# Altium integrated library TI Power Management Power Modules.IntLib: 831 symbols (part 30 of 44)
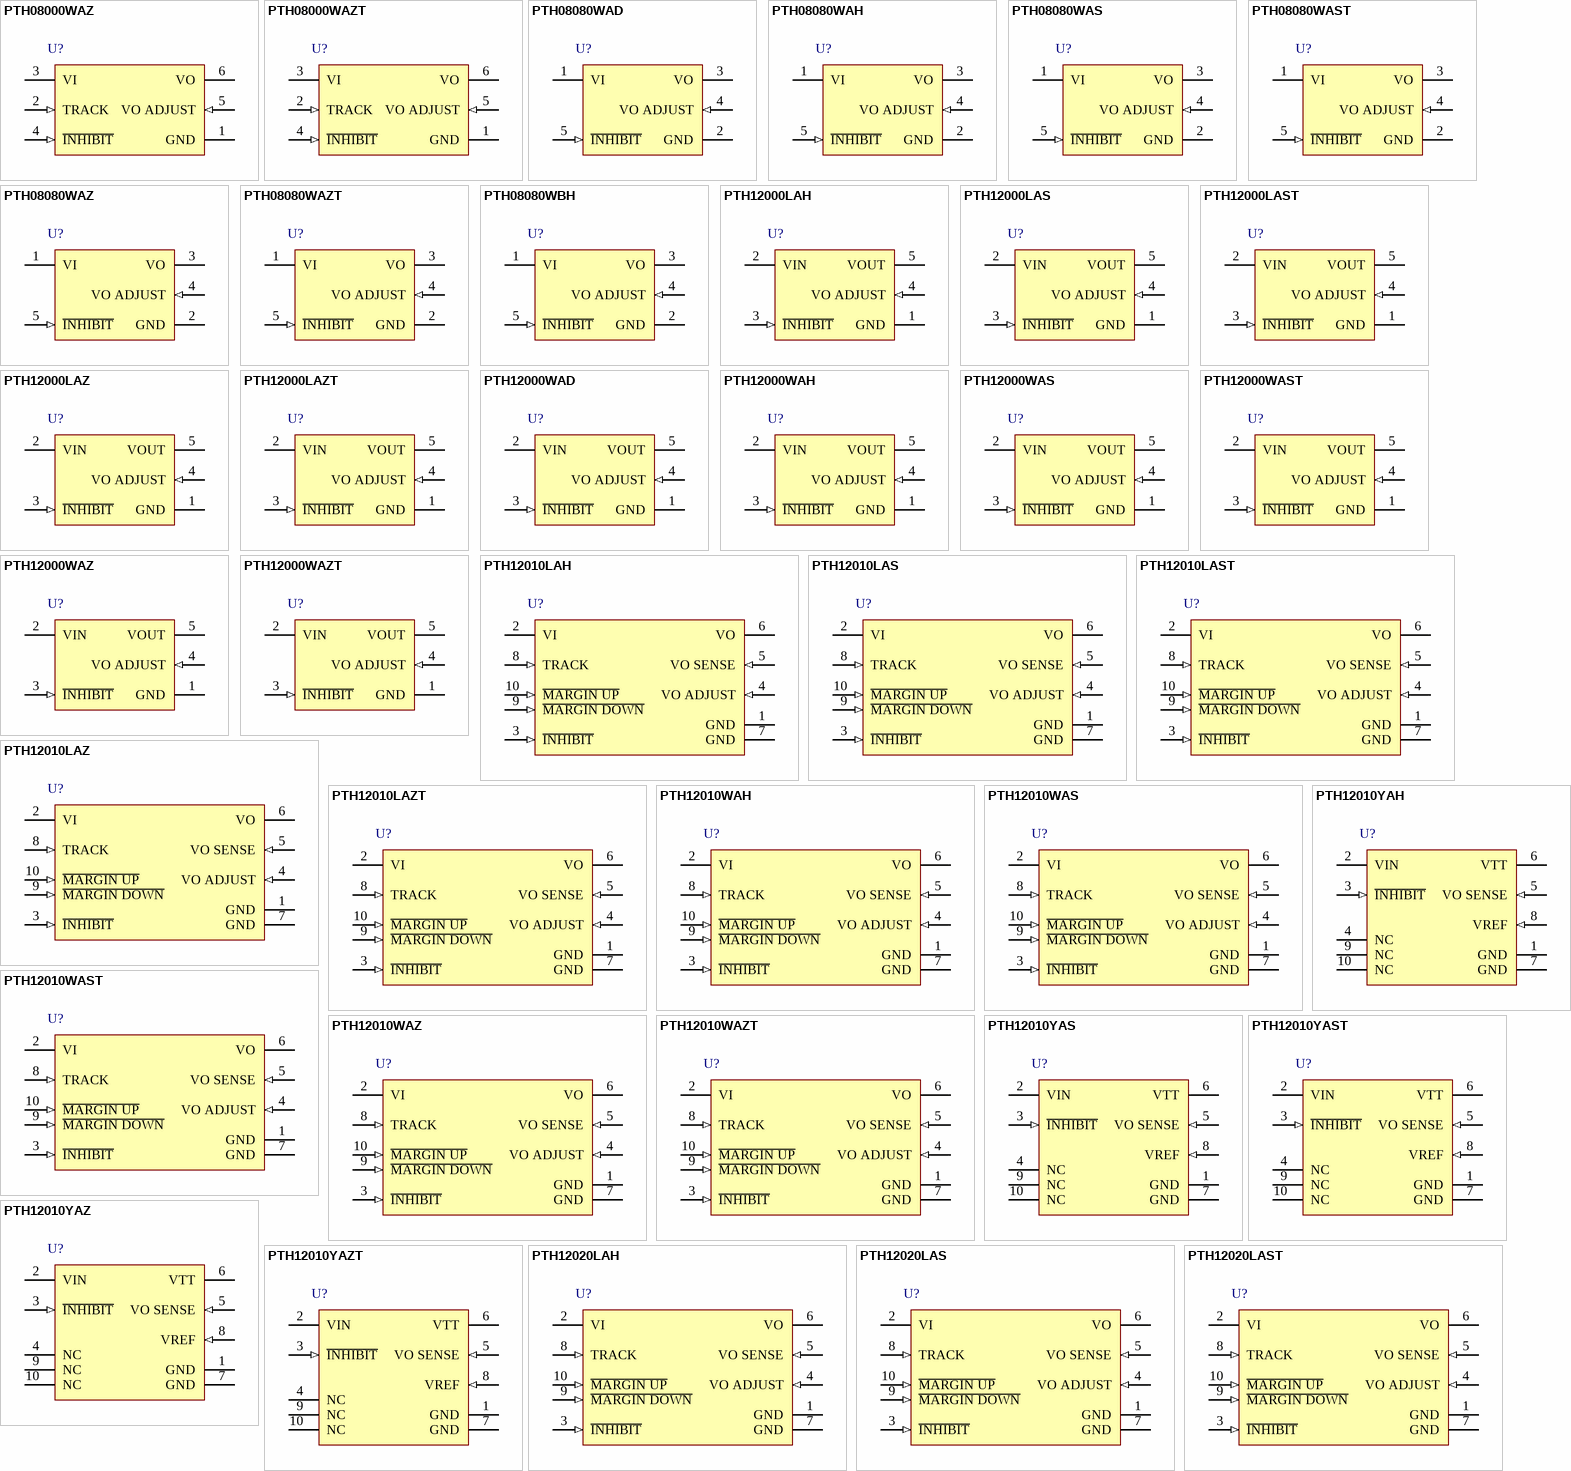
[diagram p52: symbols PTH08000WAZ to PTH12020LAST]

## PTH12010WAS
designator U?
1.2 to 5.5 V, 12 A, 12 V Input Non-Isolated Wide Adjust Module, -40 to 85 degC, 10-pin Module (EUJ10); Manufacturer: Texas Instruments; PartNumber: PTH12010WAS; Eco-Plan: TBD; Iout(Max)(A): 12; Regulated Outputs(#): 1; SubFamily: Non-Isolated POL; Vin(Max)(V): 13.2; Vin(Min)(V): 10.8; VO Adjustable: TRUE; Vout(Max)(V): 5.5; Vout(Min)(V): 1.2; DatasheetVersion: SLTS205G; PackageVersion: 4204985-3/E; PackageReference: EUJ10; PackageDescription: 10-Pin Plastic Special Shape, Body 15.75 x 34.8 mm; Supplier 1: Digi-Key; Supplier Part Number 1: 296-20455-ND; Supplier 2: Mouser; Supplier Part Number 2: 595-PTH12010WAS; Mounting Technology: Surface Mount; ComponentLink1Description: Manufacturer URL; ComponentLink1URL: http://www.ti.com/; ComponentLink2Description: Datasheet; ComponentLink2URL: http://www.ti.com/general/docs/lit/getliterature.tsp?genericPartNumber=PTH12010W&fileType=pdf; ComponentLink3Description: Package Specification; ComponentLink3URL: http://www.ti.com/lit/ml/mpds136d/mpds136d.pdf; ComponentLink4Description: URL Link1; ComponentLink4URL: Samples URL:http://www.ti.com/product/pth12010w#samples
footprint TI-EUJ10_V (10-Leads Double Sided Module, Body 34.8x15.75mm)
pins: 1 GND (power) "This is the common ground connection for the Vin and Vout power connections. It is also the 0 VDC reference for the control inputs.", 2 VI (power) "The positive input voltage power node to the module, which is referenced to common GND.", 3 ~{INHIBIT} (in) "The Inhibit pin is an open-collector/drain negative logic input that is referenced to GND. Applying a lowlevel ground signal to this input disables the module’s output and turns off the output voltage. When the Inhibit (See Datasheet)", 4 VO ADJUST (in) "A 1% resistor must be connected directly between this pin and GND (pin 7) to set the output voltage of the module higher than its lowest value. The temperature stability of the resistor should be 100 ppm/degreesC (or better).(See Datasheet)", 5 VO SENSE (in) "The sense input allows the regulation circuit to compensate for voltage drop between the module and the load. For optimal voltage accuracy Vo Sense should be connected to Vout. It can also be left disconnected.", 6 VO (power) "The regulated positive power output with respect to the GND node.", 7 GND (power) "This is the common ground connection for the Vin and Vout power connections. It is also the 0 VDC reference for the control inputs.", 8 TRACK (in) "This is an analog control input that enables the output voltage to follow an external voltage. This pin becomes active typically 20 ms after the input voltage has been applied, and allows direct control of the output voltage (See Datasheet)", 9 ~{MARGIN DOWN} (in) "When this input is asserted to GND, the output voltage is decreased by 5% from the nominal. The input requires an open-collector (open-drain) interface. It is not TTL compatible. A lower percent change can be accomodated (See Datasheet)", 10 ~{MARGIN UP} (in) "When this input is asserted to GND, the output voltage is increased by 5%. The input requires an open-collector (open-drain) interface. It is not TTL compatible. The percent change can be reduced with a series resistor. For (See Datasheet)"

## PTH12010WAST
designator U?
1.2 to 5.5 V, 12 A, 12 V Input Non-Isolated Wide Adjust Module, -40 to 85 degC, 10-pin Module (EUJ10); Manufacturer: Texas Instruments; PartNumber: PTH12010WAST; Eco-Plan: TBD; Iout(Max)(A): 12; Regulated Outputs(#): 1; SubFamily: Non-Isolated POL; Vin(Max)(V): 13.2; Vin(Min)(V): 10.8; VO Adjustable: TRUE; Vout(Max)(V): 5.5; Vout(Min)(V): 1.2; DatasheetVersion: SLTS205G; PackageVersion: 4204985-3/E; PackageReference: EUJ10; PackageDescription: 10-Pin Plastic Special Shape, Body 15.75 x 34.8 mm; Supplier 1: Digi-Key; Supplier Part Number 1: PTH12010WAST-ND; Supplier 2: Mouser; Supplier Part Number 2: 595-PTH12010WAST; Mounting Technology: Surface Mount; ComponentLink1Description: Manufacturer URL; ComponentLink1URL: http://www.ti.com/; ComponentLink2Description: Datasheet; ComponentLink2URL: http://www.ti.com/general/docs/lit/getliterature.tsp?genericPartNumber=PTH12010W&fileType=pdf; ComponentLink3Description: Package Specification; ComponentLink3URL: http://www.ti.com/lit/ml/mpds136d/mpds136d.pdf; ComponentLink4Description: URL Link1; ComponentLink4URL: Samples URL:http://www.ti.com/product/pth12010w#samples
footprint TI-EUJ10_V (10-Leads Double Sided Module, Body 34.8x15.75mm)
pins: 1 GND (power) "This is the common ground connection for the Vin and Vout power connections. It is also the 0 VDC reference for the control inputs.", 2 VI (power) "The positive input voltage power node to the module, which is referenced to common GND.", 3 ~{INHIBIT} (in) "The Inhibit pin is an open-collector/drain negative logic input that is referenced to GND. Applying a lowlevel ground signal to this input disables the module’s output and turns off the output voltage. When the Inhibit (See Datasheet)", 4 VO ADJUST (in) "A 1% resistor must be connected directly between this pin and GND (pin 7) to set the output voltage of the module higher than its lowest value. The temperature stability of the resistor should be 100 ppm/degreesC (or better).(See Datasheet)", 5 VO SENSE (in) "The sense input allows the regulation circuit to compensate for voltage drop between the module and the load. For optimal voltage accuracy Vo Sense should be connected to Vout. It can also be left disconnected.", 6 VO (power) "The regulated positive power output with respect to the GND node.", 7 GND (power) "This is the common ground connection for the Vin and Vout power connections. It is also the 0 VDC reference for the control inputs.", 8 TRACK (in) "This is an analog control input that enables the output voltage to follow an external voltage. This pin becomes active typically 20 ms after the input voltage has been applied, and allows direct control of the output voltage (See Datasheet)", 9 ~{MARGIN DOWN} (in) "When this input is asserted to GND, the output voltage is decreased by 5% from the nominal. The input requires an open-collector (open-drain) interface. It is not TTL compatible. A lower percent change can be accomodated (See Datasheet)", 10 ~{MARGIN UP} (in) "When this input is asserted to GND, the output voltage is increased by 5%. The input requires an open-collector (open-drain) interface. It is not TTL compatible. The percent change can be reduced with a series resistor. For (See Datasheet)"

## PTH12010WAZ
designator U?
1.2 to 5.5 V, 12 A, 12 V Input Non-Isolated Wide Adjust Module, -40 to 85 degC, 10-pin Module (EUJ10), Pb-Free (RoHS); Manufacturer: Texas Instruments; PartNumber: PTH12010WAZ; Iout(Max)(A): 12; Regulated Outputs(#): 1; SubFamily: Non-Isolated POL; Vin(Max)(V): 13.2; Vin(Min)(V): 10.8; VO Adjustable: TRUE; Vout(Max)(V): 5.5; Vout(Min)(V): 1.2; DatasheetVersion: SLTS205G; PackageVersion: 4204985-3/E; PackageReference: EUJ10; PackageDescription: 10-Pin Plastic Special Shape, Body 15.75 x 34.8 mm; Supplier 1: Digi-Key; Supplier Part Number 1: 296-20456-ND; Supplier 2: Newark; Supplier Part Number 2: 37K0738; Supplier 3: Mouser; Supplier Part Number 3: 595-PTH12010WAZ; Eco-Plan: Pb-Free (RoHS); Mounting Technology: Surface Mount; ComponentLink1Description: Manufacturer URL; ComponentLink1URL: http://www.ti.com/; ComponentLink2Description: Datasheet; ComponentLink2URL: http://www.ti.com/general/docs/lit/getliterature.tsp?genericPartNumber=PTH12010W&fileType=pdf; ComponentLink3Description: Package Specification; ComponentLink3URL: http://www.ti.com/lit/ml/mpds136d/mpds136d.pdf; ComponentLink4Description: URL Link1; ComponentLink4URL: Samples URL:http://www.ti.com/product/pth12010w#samples
footprint TI-EUJ10_V (10-Leads Double Sided Module, Body 34.8x15.75mm)
pins: 1 GND (power) "This is the common ground connection for the Vin and Vout power connections. It is also the 0 VDC reference for the control inputs.", 2 VI (power) "The positive input voltage power node to the module, which is referenced to common GND.", 3 ~{INHIBIT} (in) "The Inhibit pin is an open-collector/drain negative logic input that is referenced to GND. Applying a lowlevel ground signal to this input disables the module’s output and turns off the output voltage. When the Inhibit (See Datasheet)", 4 VO ADJUST (in) "A 1% resistor must be connected directly between this pin and GND (pin 7) to set the output voltage of the module higher than its lowest value. The temperature stability of the resistor should be 100 ppm/degreesC (or better).(See Datasheet)", 5 VO SENSE (in) "The sense input allows the regulation circuit to compensate for voltage drop between the module and the load. For optimal voltage accuracy Vo Sense should be connected to Vout. It can also be left disconnected.", 6 VO (power) "The regulated positive power output with respect to the GND node.", 7 GND (power) "This is the common ground connection for the Vin and Vout power connections. It is also the 0 VDC reference for the control inputs.", 8 TRACK (in) "This is an analog control input that enables the output voltage to follow an external voltage. This pin becomes active typically 20 ms after the input voltage has been applied, and allows direct control of the output voltage (See Datasheet)", 9 ~{MARGIN DOWN} (in) "When this input is asserted to GND, the output voltage is decreased by 5% from the nominal. The input requires an open-collector (open-drain) interface. It is not TTL compatible. A lower percent change can be accomodated (See Datasheet)", 10 ~{MARGIN UP} (in) "When this input is asserted to GND, the output voltage is increased by 5%. The input requires an open-collector (open-drain) interface. It is not TTL compatible. The percent change can be reduced with a series resistor. For (See Datasheet)"

## PTH12010WAZT
designator U?
1.2 to 5.5 V, 12 A, 12 V Input Non-Isolated Wide Adjust Module, -40 to 85 degC, 10-pin Module (EUJ10), Pb-Free (RoHS); Manufacturer: Texas Instruments; PartNumber: PTH12010WAZT; Iout(Max)(A): 12; Regulated Outputs(#): 1; SubFamily: Non-Isolated POL; Vin(Max)(V): 13.2; Vin(Min)(V): 10.8; VO Adjustable: TRUE; Vout(Max)(V): 5.5; Vout(Min)(V): 1.2; DatasheetVersion: SLTS205G; PackageVersion: 4204985-3/E; PackageReference: EUJ10; PackageDescription: 10-Pin Plastic Special Shape, Body 15.75 x 34.8 mm; Supplier 1: Digi-Key; Supplier Part Number 1: PTH12010WAZT-ND; Supplier 2: Newark; Supplier Part Number 2: 37K0739; Supplier 3: Mouser; Supplier Part Number 3: 595-PTH12010WAZT; Eco-Plan: Pb-Free (RoHS); Mounting Technology: Surface Mount; ComponentLink1Description: Manufacturer URL; ComponentLink1URL: http://www.ti.com/; ComponentLink2Description: Datasheet; ComponentLink2URL: http://www.ti.com/general/docs/lit/getliterature.tsp?genericPartNumber=PTH12010W&fileType=pdf; ComponentLink3Description: Package Specification; ComponentLink3URL: http://www.ti.com/lit/ml/mpds136d/mpds136d.pdf; ComponentLink4Description: URL Link1; ComponentLink4URL: Samples URL:http://www.ti.com/lit/gpn/pth12010w
footprint TI-EUJ10_V (10-Leads Double Sided Module, Body 34.8x15.75mm)
pins: 1 GND (power) "This is the common ground connection for the Vin and Vout power connections. It is also the 0 VDC reference for the control inputs.", 2 VI (power) "The positive input voltage power node to the module, which is referenced to common GND.", 3 ~{INHIBIT} (in) "The Inhibit pin is an open-collector/drain negative logic input that is referenced to GND. Applying a lowlevel ground signal to this input disables the module’s output and turns off the output voltage. When the Inhibit (See Datasheet)", 4 VO ADJUST (in) "A 1% resistor must be connected directly between this pin and GND (pin 7) to set the output voltage of the module higher than its lowest value. The temperature stability of the resistor should be 100 ppm/degreesC (or better).(See Datasheet)", 5 VO SENSE (in) "The sense input allows the regulation circuit to compensate for voltage drop between the module and the load. For optimal voltage accuracy Vo Sense should be connected to Vout. It can also be left disconnected.", 6 VO (power) "The regulated positive power output with respect to the GND node.", 7 GND (power) "This is the common ground connection for the Vin and Vout power connections. It is also the 0 VDC reference for the control inputs.", 8 TRACK (in) "This is an analog control input that enables the output voltage to follow an external voltage. This pin becomes active typically 20 ms after the input voltage has been applied, and allows direct control of the output voltage (See Datasheet)", 9 ~{MARGIN DOWN} (in) "When this input is asserted to GND, the output voltage is decreased by 5% from the nominal. The input requires an open-collector (open-drain) interface. It is not TTL compatible. A lower percent change can be accomodated (See Datasheet)", 10 ~{MARGIN UP} (in) "When this input is asserted to GND, the output voltage is increased by 5%. The input requires an open-collector (open-drain) interface. It is not TTL compatible. The percent change can be reduced with a series resistor. For (See Datasheet)"

## PTH12010YAH
designator U?
15 A, 12 V Input Bus Termination Power Module for DDR / QDR Memory, -40 to 85 degC, 10-pin Module (EUH10), Pb-Free (RoHS); Manufacturer: Texas Instruments; PartNumber: PTH12010YAH; Iout(Max)(A): 12; SubFamily: Non-Isolated POL; Vin(Max)(V): 13.2; Vin(Min)(V): 10.8; Vout(Max)(V): 1.8; Vout(Min)(V): 0.55; DatasheetVersion: SLTS223A; PackageVersion: 4204984-3/E; PackageReference: EUH10; PackageDescription: 10-Pin Plastic Special Shape, Body 15.75 x 34.8 mm; Supplier 1: Digi-Key; Supplier Part Number 1: 296-20457-ND; Supplier 2: Newark; Supplier Part Number 2: 01J0647; Supplier 3: Mouser; Supplier Part Number 3: 595-PTH12010YAH; Eco-Plan: Pb-Free (RoHS); Mounting Technology: Through Hole; ComponentLink1Description: Manufacturer URL; ComponentLink1URL: http://www.ti.com/; ComponentLink2Description: Datasheet; ComponentLink2URL: http://www.ti.com/general/docs/lit/getliterature.tsp?genericPartNumber=PTH12010Y&fileType=pdf; ComponentLink3Description: Package Specification; ComponentLink3URL: http://www.ti.com/litv/pdf/mpds130d; ComponentLink4Description: URL Link1; ComponentLink4URL: Samples URL:http://www.ti.com/product/pth12010y#samples
footprint TI-EUH10_V (Module, 10-Leads, Body 34.8x15.75 mm)
pins: 1 GND (power) "This is the common ground connection for the VIN and VTT power connections. It is also the 0-VDC reference for the control inputs.", 2 VIN (power) "The positive input voltage power node to the module, which is referenced to common GND.", 3 ~{INHIBIT} (in) "The Inhibit pin is an open-collector/drain negative logic input that is referenced to GND. Applying a low-level ground signal to this input turns off the output voltage, VTT. Although the module is inhibited, a voltage, VDDQ (See Datasheet)", 4 NC "No connection", 5 VO SENSE (in) "The sense input allows the regulation circuit to compensate for voltage drop between the module and the load. For optimal voltage accuracy VO SENSE should be connected to VTT.", 6 VTT (power) "This is the regulated power output from the module with respect to the GND node, and the tracking termination supply for the applicantion data and address buses.It is precisely regulated to the voltage applied to the (See Datasheet)", 7 GND (power) "This is the common ground connection for the VIN and VTT power connections. It is also the 0-VDC reference for the control inputs.", 8 VREF (in) "The module senses the voltage at this input to regulate the output voltage, VTT. The voltage at VREF is also the reference voltage for the system bus receiver comparators. It is normally set to precisely half the bus driver (See Datasheet)", 9 NC "No connection", 10 NC "No connection"

## PTH12010YAS
designator U?
15 A 12 V Input Bus Termination Power Module for DDR / QDR Memory, -40 to 85 degC, 10-pin Module (EUJ10); Manufacturer: Texas Instruments; PartNumber: PTH12010YAS; Eco-Plan: TBD; Iout(Max)(A): 12; SubFamily: Non-Isolated POL; Vin(Max)(V): 13.2; Vin(Min)(V): 10.8; Vout(Max)(V): 1.8; Vout(Min)(V): 0.55; DatasheetVersion: SLTS223A; PackageVersion: 4204985-3/E; PackageReference: EUJ10; PackageDescription: 10-Pin Plastic Special Shape, Body 15.75 x 34.8 mm; Supplier 1: Digi-Key; Supplier Part Number 1: 296-20458-ND; Supplier 2: Newark; Supplier Part Number 2: 01J0648; Supplier 3: Mouser; Supplier Part Number 3: 595-PTH12010YAS; Mounting Technology: Surface Mount; ComponentLink1Description: Manufacturer URL; ComponentLink1URL: http://www.ti.com/; ComponentLink2Description: Datasheet; ComponentLink2URL: http://www.ti.com/general/docs/lit/getliterature.tsp?genericPartNumber=PTH12010Y&fileType=pdf; ComponentLink3Description: Package Specification; ComponentLink3URL: http://www.ti.com/lit/ml/mpds136d/mpds136d.pdf; ComponentLink4Description: URL Link1; ComponentLink4URL: Samples URL:http://www.ti.com/product/pth12010y#samples
footprint TI-EUJ10_V (10-Leads Double Sided Module, Body 34.8x15.75mm)
pins: 1 GND (power) "This is the common ground connection for the VIN and VTT power connections. It is also the 0-VDC reference for the control inputs.", 2 VIN (power) "The positive input voltage power node to the module, which is referenced to common GND.", 3 ~{INHIBIT} (in) "The Inhibit pin is an open-collector/drain negative logic input that is referenced to GND. Applying a low-level ground signal to this input turns off the output voltage, VTT. Although the module is inhibited, a voltage, VDDQ (See Datasheet)", 4 NC "No connection", 5 VO SENSE (in) "The sense input allows the regulation circuit to compensate for voltage drop between the module and the load. For optimal voltage accuracy VO SENSE should be connected to VTT.", 6 VTT (power) "This is the regulated power output from the module with respect to the GND node, and the tracking termination supply for the applicantion data and address buses.It is precisely regulated to the voltage applied to the (See Datasheet)", 7 GND (power) "This is the common ground connection for the VIN and VTT power connections. It is also the 0-VDC reference for the control inputs.", 8 VREF (in) "The module senses the voltage at this input to regulate the output voltage, VTT. The voltage at VREF is also the reference voltage for the system bus receiver comparators. It is normally set to precisely half the bus driver (See Datasheet)", 9 NC "No connection", 10 NC "No connection"

## PTH12010YAST
designator U?
15 A 12 V Input Bus Termination Power Module for DDR / QDR Memory, -40 to 85 degC, 10-pin Module (EUJ10); Manufacturer: Texas Instruments; PartNumber: PTH12010YAST; Eco-Plan: TBD; Iout(Max)(A): 12; SubFamily: Non-Isolated POL; Vin(Max)(V): 13.2; Vin(Min)(V): 10.8; Vout(Max)(V): 1.8; Vout(Min)(V): 0.55; DatasheetVersion: SLTS223A; PackageVersion: 4204985-3/E; PackageReference: EUJ10; PackageDescription: 10-Pin Plastic Special Shape, Body 15.75 x 34.8 mm; Supplier 1: Digi-Key; Supplier Part Number 1: PTH12010YAST-ND; Supplier 2: Newark; Supplier Part Number 2: 01J0649; Supplier 3: Mouser; Supplier Part Number 3: 595-PTH12010YAST; Mounting Technology: Surface Mount; ComponentLink1Description: Manufacturer URL; ComponentLink1URL: http://www.ti.com/; ComponentLink2Description: Datasheet; ComponentLink2URL: http://www.ti.com/general/docs/lit/getliterature.tsp?genericPartNumber=PTH12010Y&fileType=pdf; ComponentLink3Description: Package Specification; ComponentLink3URL: http://www.ti.com/lit/ml/mpds136d/mpds136d.pdf; ComponentLink4Description: URL Link1; ComponentLink4URL: Samples URL:http://www.ti.com/product/pth12010y#samples
footprint TI-EUJ10_V (10-Leads Double Sided Module, Body 34.8x15.75mm)
pins: 1 GND (power) "This is the common ground connection for the VIN and VTT power connections. It is also the 0-VDC reference for the control inputs.", 2 VIN (power) "The positive input voltage power node to the module, which is referenced to common GND.", 3 ~{INHIBIT} (in) "The Inhibit pin is an open-collector/drain negative logic input that is referenced to GND. Applying a low-level ground signal to this input turns off the output voltage, VTT. Although the module is inhibited, a voltage, VDDQ (See Datasheet)", 4 NC "No connection", 5 VO SENSE (in) "The sense input allows the regulation circuit to compensate for voltage drop between the module and the load. For optimal voltage accuracy VO SENSE should be connected to VTT.", 6 VTT (power) "This is the regulated power output from the module with respect to the GND node, and the tracking termination supply for the applicantion data and address buses.It is precisely regulated to the voltage applied to the (See Datasheet)", 7 GND (power) "This is the common ground connection for the VIN and VTT power connections. It is also the 0-VDC reference for the control inputs.", 8 VREF (in) "The module senses the voltage at this input to regulate the output voltage, VTT. The voltage at VREF is also the reference voltage for the system bus receiver comparators. It is normally set to precisely half the bus driver (See Datasheet)", 9 NC "No connection", 10 NC "No connection"

## PTH12010YAZ
designator U?
15 A 12 V Input Bus Termination Power Module for DDR / QDR Memory, -40 to 85 degC, 10-pin Module (EUJ10), Pb-Free (RoHS); Manufacturer: Texas Instruments; PartNumber: PTH12010YAZ; Iout(Max)(A): 12; SubFamily: Non-Isolated POL; Vin(Max)(V): 13.2; Vin(Min)(V): 10.8; Vout(Max)(V): 1.8; Vout(Min)(V): 0.55; DatasheetVersion: SLTS223A; PackageVersion: 4204985-3/E; PackageReference: EUJ10; PackageDescription: 10-Pin Plastic Special Shape, Body 15.75 x 34.8 mm; Supplier 1: Digi-Key; Supplier Part Number 1: 296-20459-ND; Supplier 2: Newark; Supplier Part Number 2: 37K0740; Supplier 3: Mouser; Supplier Part Number 3: 595-PTH12010YAZ; Eco-Plan: Pb-Free (RoHS); Mounting Technology: Surface Mount; ComponentLink1Description: Manufacturer URL; ComponentLink1URL: http://www.ti.com/; ComponentLink2Description: Datasheet; ComponentLink2URL: http://www.ti.com/general/docs/lit/getliterature.tsp?genericPartNumber=PTH12010Y&fileType=pdf; ComponentLink3Description: Package Specification; ComponentLink3URL: http://www.ti.com/lit/ml/mpds136d/mpds136d.pdf; ComponentLink4Description: URL Link1; ComponentLink4URL: Samples URL:http://www.ti.com/product/pth12010y#samples
footprint TI-EUJ10_V (10-Leads Double Sided Module, Body 34.8x15.75mm)
pins: 1 GND (power) "This is the common ground connection for the VIN and VTT power connections. It is also the 0-VDC reference for the control inputs.", 2 VIN (power) "The positive input voltage power node to the module, which is referenced to common GND.", 3 ~{INHIBIT} (in) "The Inhibit pin is an open-collector/drain negative logic input that is referenced to GND. Applying a low-level ground signal to this input turns off the output voltage, VTT. Although the module is inhibited, a voltage, VDDQ (See Datasheet)", 4 NC "No connection", 5 VO SENSE (in) "The sense input allows the regulation circuit to compensate for voltage drop between the module and the load. For optimal voltage accuracy VO SENSE should be connected to VTT.", 6 VTT (power) "This is the regulated power output from the module with respect to the GND node, and the tracking termination supply for the applicantion data and address buses.It is precisely regulated to the voltage applied to the (See Datasheet)", 7 GND (power) "This is the common ground connection for the VIN and VTT power connections. It is also the 0-VDC reference for the control inputs.", 8 VREF (in) "The module senses the voltage at this input to regulate the output voltage, VTT. The voltage at VREF is also the reference voltage for the system bus receiver comparators. It is normally set to precisely half the bus driver (See Datasheet)", 9 NC "No connection", 10 NC "No connection"

## PTH12010YAZT
designator U?
15 A 12 V Input Bus Termination Power Module for DDR / QDR Memory, -40 to 85 degC, 10-pin Module (EUJ10), Pb-Free (RoHS); Manufacturer: Texas Instruments; PartNumber: PTH12010YAZT; Iout(Max)(A): 12; SubFamily: Non-Isolated POL; Vin(Max)(V): 13.2; Vin(Min)(V): 10.8; Vout(Max)(V): 1.8; Vout(Min)(V): 0.55; DatasheetVersion: SLTS223A; PackageVersion: 4204985-3/E; PackageReference: EUJ10; PackageDescription: 10-Pin Plastic Special Shape, Body 15.75 x 34.8 mm; Supplier 1: Digi-Key; Supplier Part Number 1: PTH12010YAZT-ND; Supplier 2: Newark; Supplier Part Number 2: 37K0741; Supplier 3: Mouser; Supplier Part Number 3: 595-PTH12010YAZT; Eco-Plan: Pb-Free (RoHS); Mounting Technology: Surface Mount; ComponentLink1Description: Manufacturer URL; ComponentLink1URL: http://www.ti.com/; ComponentLink2Description: Datasheet; ComponentLink2URL: http://www.ti.com/general/docs/lit/getliterature.tsp?genericPartNumber=PTH12010Y&fileType=pdf; ComponentLink3Description: Package Specification; ComponentLink3URL: http://www.ti.com/lit/ml/mpds136d/mpds136d.pdf; ComponentLink4Description: URL Link1; ComponentLink4URL: Samples URL:http://www.ti.com/product/pth12010y#samples
footprint TI-EUJ10_V (10-Leads Double Sided Module, Body 34.8x15.75mm)
pins: 1 GND (power) "This is the common ground connection for the VIN and VTT power connections. It is also the 0-VDC reference for the control inputs.", 2 VIN (power) "The positive input voltage power node to the module, which is referenced to common GND.", 3 ~{INHIBIT} (in) "The Inhibit pin is an open-collector/drain negative logic input that is referenced to GND. Applying a low-level ground signal to this input turns off the output voltage, VTT. Although the module is inhibited, a voltage, VDDQ (See Datasheet)", 4 NC "No connection", 5 VO SENSE (in) "The sense input allows the regulation circuit to compensate for voltage drop between the module and the load. For optimal voltage accuracy VO SENSE should be connected to VTT.", 6 VTT (power) "This is the regulated power output from the module with respect to the GND node, and the tracking termination supply for the applicantion data and address buses.It is precisely regulated to the voltage applied to the (See Datasheet)", 7 GND (power) "This is the common ground connection for the VIN and VTT power connections. It is also the 0-VDC reference for the control inputs.", 8 VREF (in) "The module senses the voltage at this input to regulate the output voltage, VTT. The voltage at VREF is also the reference voltage for the system bus receiver comparators. It is normally set to precisely half the bus driver (See Datasheet)", 9 NC "No connection", 10 NC "No connection"

## PTH12020LAH
designator U?
0.8 to 1.8 V 18 A, 12 V Input Non-Isolated Wide Adjust Module, -40 to 85 degC, 10-pin Module (EUK10), Pb-Free (RoHS); Manufacturer: Texas Instruments; PartNumber: PTH12020LAH; Iout(Max)(A): 18; Regulated Outputs(#): 1; SubFamily: Non-Isolated POL; Vin(Max)(V): 13.2; Vin(Min)(V): 10.8; VO Adjustable: TRUE; Vout(Max)(V): 1.8; Vout(Min)(V): 0.8; DatasheetVersion: SLTS208I; PackageVersion: 4204986-3/C; PackageReference: EUK10; PackageDescription: 10-Pin Plastic Special Shape, Body 22.1 x 37.97 mm; Supplier 1: Digi-Key; Supplier Part Number 1: 296-20460-ND; Supplier 2: Newark; Supplier Part Number 2: 21J8885; Supplier 3: Mouser; Supplier Part Number 3: 595-PTH12020LAH; Eco-Plan: Pb-Free (RoHS); Mounting Technology: Through Hole; ComponentLink1Description: Manufacturer URL; ComponentLink1URL: http://www.ti.com/; ComponentLink2Description: Datasheet; ComponentLink2URL: http://www.ti.com/general/docs/lit/getliterature.tsp?genericPartNumber=PTH12020L&fileType=pdf; ComponentLink3Description: Package Specification; ComponentLink3URL: http://www.ti.com/litv/pdf/mpds137b; ComponentLink4Description: URL Link1; ComponentLink4URL: Samples URL:http://www.ti.com/product/pth12020l#samples
footprint TI-EUK10_V (Module, 10-Leads, Body 37.97x22.1mm)
pins: 1 GND (power) "This is the common ground connection for the Vin and Vout power connections. It is also the 0 VDC reference for the control inputs.", 2 VI (power) "The positive input voltage power node to the module, which is referenced to common GND.", 3 ~{INHIBIT} (in) "The Inhibit pin is an open-collector/drain negative logic input that is referenced to GND. Applying a lowlevel ground signal to this input disables the module’s output and turns off the output voltage. When the Inhibit (See Datasheet)", 4 VO ADJUST (in) "A 1% resistor must be connected directly between this pin and GND (pin 7) to set the output voltage of the module higher than its lowest value. The temperature stability of the resistor should be 100 ppm/degreesC (or better).(See Datasheet)", 5 VO SENSE (in) "The sense input allows the regulation circuit to compensate for voltage drop between the module and the load. For optimal voltage accuracy Vo Sense should be connected to Vout. It can also be left disconnected.", 6 VO (power) "The regulated positive power output with respect to the GND node.", 7 GND (power) "This is the common ground connection for the Vin and Vout power connections. It is also the 0 VDC reference for the control inputs.", 8 TRACK (in) "This is an analog control input that enables the output voltage to follow an external voltage. This pin becomes active typically 20 ms after the input voltage has been applied, and allows direct control of the output voltage (See Datasheet)", 9 ~{MARGIN DOWN} (in) "When this input is asserted to GND, the output voltage is decreased by 5% from the nominal. The input requires an open-collector (open-drain) interface. It is not TTL compatible. A lower percent change can be accomodated (See Datasheet)", 10 ~{MARGIN UP} (in) "When this input is asserted to GND, the output voltage is increased by 5%. The input requires an open-collector (open-drain) interface. It is not TTL compatible. The percent change can be reduced with a series resistor. For (See Datasheet)"

## PTH12020LAS
designator U?
0.8 to 1.8 V 18 A, 12 V Input Non-Isolated Wide Adjust Module, -40 to 85 degC, 10-pin Module (EUL10); Manufacturer: Texas Instruments; PartNumber: PTH12020LAS; Eco-Plan: TBD; Iout(Max)(A): 18; Regulated Outputs(#): 1; SubFamily: Non-Isolated POL; Vin(Max)(V): 13.2; Vin(Min)(V): 10.8; VO Adjustable: TRUE; Vout(Max)(V): 1.8; Vout(Min)(V): 0.8; DatasheetVersion: SLTS208I; PackageVersion: 4204987-3/C; PackageReference: EUL10; PackageDescription: 10-Pin Plastic Special Shape, Body 22.1 x 37.97 mm; Supplier 1: Digi-Key; Supplier Part Number 1: 296-20461-ND; Supplier 2: Newark; Supplier Part Number 2: 21J8886; Supplier 3: Mouser; Supplier Part Number 3: 595-PTH12020LAS; Mounting Technology: Surface Mount; ComponentLink1Description: Manufacturer URL; ComponentLink1URL: http://www.ti.com/; ComponentLink2Description: Datasheet; ComponentLink2URL: http://www.ti.com/general/docs/lit/getliterature.tsp?genericPartNumber=PTH12020L&fileType=pdf; ComponentLink3Description: Package Specification; ComponentLink3URL: http://www.ti.com/lit/ml/mpds138b/mpds138b.pdf; ComponentLink4Description: URL Link1; ComponentLink4URL: Samples URL:http://www.ti.com/product/pth12020l#samples
footprint TI-EUL10_V (Module, 10-Leads, Body 37.97x22.1 mm)
pins: 1 GND (power) "This is the common ground connection for the Vin and Vout power connections. It is also the 0 VDC reference for the control inputs.", 2 VI (power) "The positive input voltage power node to the module, which is referenced to common GND.", 3 ~{INHIBIT} (in) "The Inhibit pin is an open-collector/drain negative logic input that is referenced to GND. Applying a lowlevel ground signal to this input disables the module’s output and turns off the output voltage. When the Inhibit (See Datasheet)", 4 VO ADJUST (in) "A 1% resistor must be connected directly between this pin and GND (pin 7) to set the output voltage of the module higher than its lowest value. The temperature stability of the resistor should be 100 ppm/degreesC (or better).(See Datasheet)", 5 VO SENSE (in) "The sense input allows the regulation circuit to compensate for voltage drop between the module and the load. For optimal voltage accuracy Vo Sense should be connected to Vout. It can also be left disconnected.", 6 VO (power) "The regulated positive power output with respect to the GND node.", 7 GND (power) "This is the common ground connection for the Vin and Vout power connections. It is also the 0 VDC reference for the control inputs.", 8 TRACK (in) "This is an analog control input that enables the output voltage to follow an external voltage. This pin becomes active typically 20 ms after the input voltage has been applied, and allows direct control of the output voltage (See Datasheet)", 9 ~{MARGIN DOWN} (in) "When this input is asserted to GND, the output voltage is decreased by 5% from the nominal. The input requires an open-collector (open-drain) interface. It is not TTL compatible. A lower percent change can be accomodated (See Datasheet)", 10 ~{MARGIN UP} (in) "When this input is asserted to GND, the output voltage is increased by 5%. The input requires an open-collector (open-drain) interface. It is not TTL compatible. The percent change can be reduced with a series resistor. For (See Datasheet)"

## PTH12020LAST
designator U?
0.8 to 1.8 V 18 A, 12 V Input Non-Isolated Wide Adjust Module, -40 to 85 degC, 10-pin Module (EUL10); Manufacturer: Texas Instruments; PartNumber: PTH12020LAST; Eco-Plan: TBD; Iout(Max)(A): 18; Regulated Outputs(#): 1; SubFamily: Non-Isolated POL; Vin(Max)(V): 13.2; Vin(Min)(V): 10.8; VO Adjustable: TRUE; Vout(Max)(V): 1.8; Vout(Min)(V): 0.8; DatasheetVersion: SLTS208I; PackageVersion: 4204987-3/C; PackageReference: EUL10; PackageDescription: 10-Pin Plastic Special Shape, Body 22.1 x 37.97 mm; Supplier 1: Digi-Key; Supplier Part Number 1: PTH12020LAST-ND; Supplier 2: Newark; Supplier Part Number 2: 21J8887; Supplier 3: Mouser; Supplier Part Number 3: 595-PTH12020LAST; Mounting Technology: Surface Mount; ComponentLink1Description: Manufacturer URL; ComponentLink1URL: http://www.ti.com/; ComponentLink2Description: Datasheet; ComponentLink2URL: http://www.ti.com/general/docs/lit/getliterature.tsp?genericPartNumber=PTH12020L&fileType=pdf; ComponentLink3Description: Package Specification; ComponentLink3URL: http://www.ti.com/lit/ml/mpds138b/mpds138b.pdf; ComponentLink4Description: URL Link1; ComponentLink4URL: Samples URL:http://www.ti.com/product/pth12020l#samples
footprint TI-EUL10_V (Module, 10-Leads, Body 37.97x22.1 mm)
pins: 1 GND (power) "This is the common ground connection for the Vin and Vout power connections. It is also the 0 VDC reference for the control inputs.", 2 VI (power) "The positive input voltage power node to the module, which is referenced to common GND.", 3 ~{INHIBIT} (in) "The Inhibit pin is an open-collector/drain negative logic input that is referenced to GND. Applying a lowlevel ground signal to this input disables the module’s output and turns off the output voltage. When the Inhibit (See Datasheet)", 4 VO ADJUST (in) "A 1% resistor must be connected directly between this pin and GND (pin 7) to set the output voltage of the module higher than its lowest value. The temperature stability of the resistor should be 100 ppm/degreesC (or better).(See Datasheet)", 5 VO SENSE (in) "The sense input allows the regulation circuit to compensate for voltage drop between the module and the load. For optimal voltage accuracy Vo Sense should be connected to Vout. It can also be left disconnected.", 6 VO (power) "The regulated positive power output with respect to the GND node.", 7 GND (power) "This is the common ground connection for the Vin and Vout power connections. It is also the 0 VDC reference for the control inputs.", 8 TRACK (in) "This is an analog control input that enables the output voltage to follow an external voltage. This pin becomes active typically 20 ms after the input voltage has been applied, and allows direct control of the output voltage (See Datasheet)", 9 ~{MARGIN DOWN} (in) "When this input is asserted to GND, the output voltage is decreased by 5% from the nominal. The input requires an open-collector (open-drain) interface. It is not TTL compatible. A lower percent change can be accomodated (See Datasheet)", 10 ~{MARGIN UP} (in) "When this input is asserted to GND, the output voltage is increased by 5%. The input requires an open-collector (open-drain) interface. It is not TTL compatible. The percent change can be reduced with a series resistor. For (See Datasheet)"

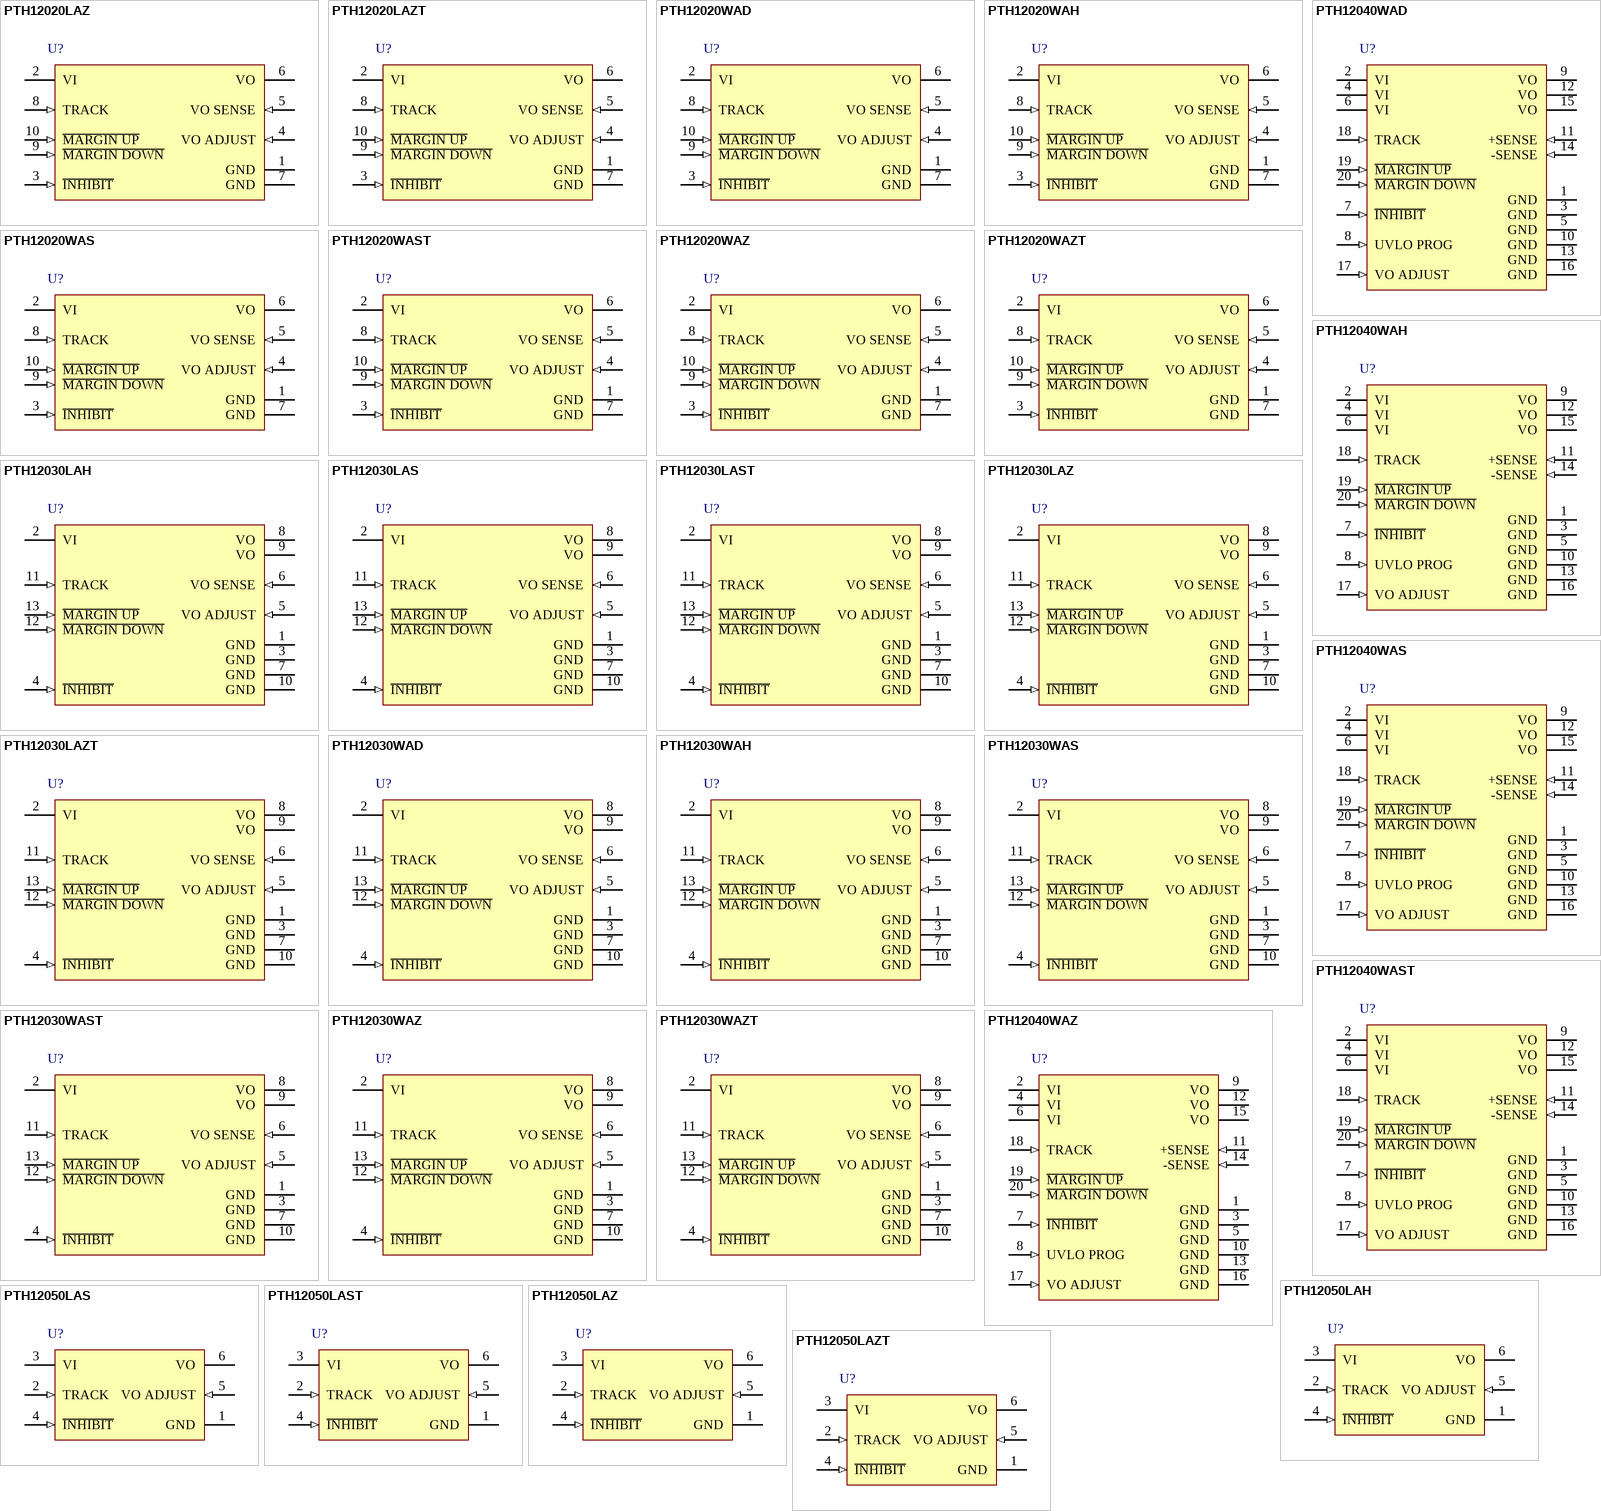
[diagram p17: symbols PTH12020LAZ to PTH12050LAZT]

## PTH12020LAZ
designator U?
0.8 to 1.8 V 18 A, 12 V Input Non-Isolated Wide Adjust Module, -40 to 85 degC, 10-pin Module (EUL10), Pb-Free (RoHS); Manufacturer: Texas Instruments; PartNumber: PTH12020LAZ; Iout(Max)(A): 18; Regulated Outputs(#): 1; SubFamily: Non-Isolated POL; Vin(Max)(V): 13.2; Vin(Min)(V): 10.8; VO Adjustable: TRUE; Vout(Max)(V): 1.8; Vout(Min)(V): 0.8; DatasheetVersion: SLTS208I; PackageVersion: 4204987-3/C; PackageReference: EUL10; PackageDescription: 10-Pin Plastic Special Shape, Body 22.1 x 37.97 mm; Supplier 1: Digi-Key; Supplier Part Number 1: 296-20462-ND; Supplier 2: Newark; Supplier Part Number 2: 37K0742; Supplier 3: Mouser; Supplier Part Number 3: 595-PTH12020LAZ; Eco-Plan: Pb-Free (RoHS); Mounting Technology: Surface Mount; ComponentLink1Description: Manufacturer URL; ComponentLink1URL: http://www.ti.com/; ComponentLink2Description: Datasheet; ComponentLink2URL: http://www.ti.com/general/docs/lit/getliterature.tsp?genericPartNumber=PTH12020L&fileType=pdf; ComponentLink3Description: Package Specification; ComponentLink3URL: http://www.ti.com/lit/ml/mpds138b/mpds138b.pdf; ComponentLink4Description: URL Link1; ComponentLink4URL: Samples URL:http://www.ti.com/product/pth12020l#samples
footprint TI-EUL10_V (Module, 10-Leads, Body 37.97x22.1 mm)
pins: 1 GND (power) "This is the common ground connection for the Vin and Vout power connections. It is also the 0 VDC reference for the control inputs.", 2 VI (power) "The positive input voltage power node to the module, which is referenced to common GND.", 3 ~{INHIBIT} (in) "The Inhibit pin is an open-collector/drain negative logic input that is referenced to GND. Applying a lowlevel ground signal to this input disables the module’s output and turns off the output voltage. When the Inhibit (See Datasheet)", 4 VO ADJUST (in) "A 1% resistor must be connected directly between this pin and GND (pin 7) to set the output voltage of the module higher than its lowest value. The temperature stability of the resistor should be 100 ppm/degreesC (or better).(See Datasheet)", 5 VO SENSE (in) "The sense input allows the regulation circuit to compensate for voltage drop between the module and the load. For optimal voltage accuracy Vo Sense should be connected to Vout. It can also be left disconnected.", 6 VO (power) "The regulated positive power output with respect to the GND node.", 7 GND (power) "This is the common ground connection for the Vin and Vout power connections. It is also the 0 VDC reference for the control inputs.", 8 TRACK (in) "This is an analog control input that enables the output voltage to follow an external voltage. This pin becomes active typically 20 ms after the input voltage has been applied, and allows direct control of the output voltage (See Datasheet)", 9 ~{MARGIN DOWN} (in) "When this input is asserted to GND, the output voltage is decreased by 5% from the nominal. The input requires an open-collector (open-drain) interface. It is not TTL compatible. A lower percent change can be accomodated (See Datasheet)", 10 ~{MARGIN UP} (in) "When this input is asserted to GND, the output voltage is increased by 5%. The input requires an open-collector (open-drain) interface. It is not TTL compatible. The percent change can be reduced with a series resistor. For (See Datasheet)"

## PTH12020LAZT
designator U?
0.8 to 1.8 V 18 A, 12 V Input Non-Isolated Wide Adjust Module, -40 to 85 degC, 10-pin Module (EUL10), Pb-Free (RoHS); Manufacturer: Texas Instruments; PartNumber: PTH12020LAZT; Iout(Max)(A): 18; Regulated Outputs(#): 1; SubFamily: Non-Isolated POL; Vin(Max)(V): 13.2; Vin(Min)(V): 10.8; VO Adjustable: TRUE; Vout(Max)(V): 1.8; Vout(Min)(V): 0.8; DatasheetVersion: SLTS208I; PackageVersion: 4204987-3/C; PackageReference: EUL10; PackageDescription: 10-Pin Plastic Special Shape, Body 22.1 x 37.97 mm; Supplier 1: Digi-Key; Supplier Part Number 1: PTH12020LAZT-ND; Supplier 2: Newark; Supplier Part Number 2: 37K0743; Supplier 3: Mouser; Supplier Part Number 3: 595-PTH12020LAZT; Eco-Plan: Pb-Free (RoHS); Mounting Technology: Surface Mount; ComponentLink1Description: Manufacturer URL; ComponentLink1URL: http://www.ti.com/; ComponentLink2Description: Datasheet; ComponentLink2URL: http://www.ti.com/general/docs/lit/getliterature.tsp?genericPartNumber=PTH12020L&fileType=pdf; ComponentLink3Description: Package Specification; ComponentLink3URL: http://www.ti.com/lit/ml/mpds138b/mpds138b.pdf; ComponentLink4Description: URL Link1; ComponentLink4URL: Samples URL:http://www.ti.com/product/pth12020l#samples
footprint TI-EUL10_V (Module, 10-Leads, Body 37.97x22.1 mm)
pins: 1 GND (power) "This is the common ground connection for the Vin and Vout power connections. It is also the 0 VDC reference for the control inputs.", 2 VI (power) "The positive input voltage power node to the module, which is referenced to common GND.", 3 ~{INHIBIT} (in) "The Inhibit pin is an open-collector/drain negative logic input that is referenced to GND. Applying a lowlevel ground signal to this input disables the module’s output and turns off the output voltage. When the Inhibit (See Datasheet)", 4 VO ADJUST (in) "A 1% resistor must be connected directly between this pin and GND (pin 7) to set the output voltage of the module higher than its lowest value. The temperature stability of the resistor should be 100 ppm/degreesC (or better).(See Datasheet)", 5 VO SENSE (in) "The sense input allows the regulation circuit to compensate for voltage drop between the module and the load. For optimal voltage accuracy Vo Sense should be connected to Vout. It can also be left disconnected.", 6 VO (power) "The regulated positive power output with respect to the GND node.", 7 GND (power) "This is the common ground connection for the Vin and Vout power connections. It is also the 0 VDC reference for the control inputs.", 8 TRACK (in) "This is an analog control input that enables the output voltage to follow an external voltage. This pin becomes active typically 20 ms after the input voltage has been applied, and allows direct control of the output voltage (See Datasheet)", 9 ~{MARGIN DOWN} (in) "When this input is asserted to GND, the output voltage is decreased by 5% from the nominal. The input requires an open-collector (open-drain) interface. It is not TTL compatible. A lower percent change can be accomodated (See Datasheet)", 10 ~{MARGIN UP} (in) "When this input is asserted to GND, the output voltage is increased by 5%. The input requires an open-collector (open-drain) interface. It is not TTL compatible. The percent change can be reduced with a series resistor. For (See Datasheet)"

## PTH12020WAD
designator U?
1.2 to 5.5 V, 18 A, 12 V Input Non-Isolated Wide Adjust Module, -40 to 85 degC, 10-pin Module (EUK10), Pb-Free (RoHS); Manufacturer: Texas Instruments; PartNumber: PTH12020WAD; Iout(Max)(A): 18; Regulated Outputs(#): 1; SubFamily: Non-Isolated POL; Vin(Max)(V): 13.2; Vin(Min)(V): 10.8; VO Adjustable: TRUE; Vout(Max)(V): 5.5; Vout(Min)(V): 1.2; DatasheetVersion: SLTS208I; PackageVersion: 4204986-3/C; PackageReference: EUK10; PackageDescription: 10-Pin Plastic Special Shape, Body 22.1 x 37.97 mm; Supplier 1: Digi-Key; Supplier Part Number 1: 296-32718-ND; Supplier 2: Newark; Supplier Part Number 2: 58K6011; Supplier 3: Mouser; Supplier Part Number 3: 595-PTH12020WAD; Eco-Plan: Pb-Free (RoHS); Mounting Technology: Through Hole; ComponentLink1Description: Manufacturer URL; ComponentLink1URL: http://www.ti.com/; ComponentLink2Description: Datasheet; ComponentLink2URL: http://www.ti.com/general/docs/lit/getliterature.tsp?genericPartNumber=PTH12020W&fileType=pdf; ComponentLink3Description: Package Specification; ComponentLink3URL: http://www.ti.com/litv/pdf/mpds137b; ComponentLink4Description: URL Link1; ComponentLink4URL: Samples URL:http://www.ti.com/product/pth12020w#samples
footprint TI-EUK10_V (Module, 10-Leads, Body 37.97x22.1mm)
pins: 1 GND (power) "This is the common ground connection for the Vin and Vout power connections. It is also the 0 VDC reference for the control inputs.", 2 VI (power) "The positive input voltage power node to the module, which is referenced to common GND.", 3 ~{INHIBIT} (in) "The Inhibit pin is an open-collector/drain negative logic input that is referenced to GND. Applying a lowlevel ground signal to this input disables the module’s output and turns off the output voltage. When the Inhibit (See Datasheet)", 4 VO ADJUST (in) "A 1% resistor must be connected directly between this pin and GND (pin 7) to set the output voltage of the module higher than its lowest value. The temperature stability of the resistor should be 100 ppm/degreesC (or better).(See Datasheet)", 5 VO SENSE (in) "The sense input allows the regulation circuit to compensate for voltage drop between the module and the load. For optimal voltage accuracy Vo Sense should be connected to Vout. It can also be left disconnected.", 6 VO (power) "The regulated positive power output with respect to the GND node.", 7 GND (power) "This is the common ground connection for the Vin and Vout power connections. It is also the 0 VDC reference for the control inputs.", 8 TRACK (in) "This is an analog control input that enables the output voltage to follow an external voltage. This pin becomes active typically 20 ms after the input voltage has been applied, and allows direct control of the output voltage (See Datasheet)", 9 ~{MARGIN DOWN} (in) "When this input is asserted to GND, the output voltage is decreased by 5% from the nominal. The input requires an open-collector (open-drain) interface. It is not TTL compatible. A lower percent change can be accomodated (See Datasheet)", 10 ~{MARGIN UP} (in) "When this input is asserted to GND, the output voltage is increased by 5%. The input requires an open-collector (open-drain) interface. It is not TTL compatible. The percent change can be reduced with a series resistor. For (See Datasheet)"

## PTH12020WAH
designator U?
1.2 to 5.5 V, 18 A, 12 V Input Non-Isolated Wide Adjust Module, -40 to 85 degC, 10-pin Module (EUK10), Pb-Free (RoHS); Manufacturer: Texas Instruments; PartNumber: PTH12020WAH; Iout(Max)(A): 18; Regulated Outputs(#): 1; SubFamily: Non-Isolated POL; Vin(Max)(V): 13.2; Vin(Min)(V): 10.8; VO Adjustable: TRUE; Vout(Max)(V): 5.5; Vout(Min)(V): 1.2; DatasheetVersion: SLTS208I; PackageVersion: 4204986-3/C; PackageReference: EUK10; PackageDescription: 10-Pin Plastic Special Shape, Body 22.1 x 37.97 mm; Supplier 1: Digi-Key; Supplier Part Number 1: 296-20463-ND; Supplier 2: Newark; Supplier Part Number 2: 73H4319; Supplier 3: Mouser; Supplier Part Number 3: 595-PTH12020WAH; Eco-Plan: Pb-Free (RoHS); Mounting Technology: Through Hole; ComponentLink1Description: Manufacturer URL; ComponentLink1URL: http://www.ti.com/; ComponentLink2Description: Datasheet; ComponentLink2URL: http://www.ti.com/general/docs/lit/getliterature.tsp?genericPartNumber=PTH12020W&fileType=pdf; ComponentLink3Description: Package Specification; ComponentLink3URL: http://www.ti.com/litv/pdf/mpds137b; ComponentLink4Description: URL Link1; ComponentLink4URL: Samples URL:http://www.ti.com/product/pth12020w#samples
footprint TI-EUK10_V (Module, 10-Leads, Body 37.97x22.1mm)
pins: 1 GND (power) "This is the common ground connection for the Vin and Vout power connections. It is also the 0 VDC reference for the control inputs.", 2 VI (power) "The positive input voltage power node to the module, which is referenced to common GND.", 3 ~{INHIBIT} (in) "The Inhibit pin is an open-collector/drain negative logic input that is referenced to GND. Applying a lowlevel ground signal to this input disables the module’s output and turns off the output voltage. When the Inhibit (See Datasheet)", 4 VO ADJUST (in) "A 1% resistor must be connected directly between this pin and GND (pin 7) to set the output voltage of the module higher than its lowest value. The temperature stability of the resistor should be 100 ppm/degreesC (or better).(See Datasheet)", 5 VO SENSE (in) "The sense input allows the regulation circuit to compensate for voltage drop between the module and the load. For optimal voltage accuracy Vo Sense should be connected to Vout. It can also be left disconnected.", 6 VO (power) "The regulated positive power output with respect to the GND node.", 7 GND (power) "This is the common ground connection for the Vin and Vout power connections. It is also the 0 VDC reference for the control inputs.", 8 TRACK (in) "This is an analog control input that enables the output voltage to follow an external voltage. This pin becomes active typically 20 ms after the input voltage has been applied, and allows direct control of the output voltage (See Datasheet)", 9 ~{MARGIN DOWN} (in) "When this input is asserted to GND, the output voltage is decreased by 5% from the nominal. The input requires an open-collector (open-drain) interface. It is not TTL compatible. A lower percent change can be accomodated (See Datasheet)", 10 ~{MARGIN UP} (in) "When this input is asserted to GND, the output voltage is increased by 5%. The input requires an open-collector (open-drain) interface. It is not TTL compatible. The percent change can be reduced with a series resistor. For (See Datasheet)"